# EAGLE library part ATARI_ACSI_PINHEAD (library Custom)
PIN HEADER
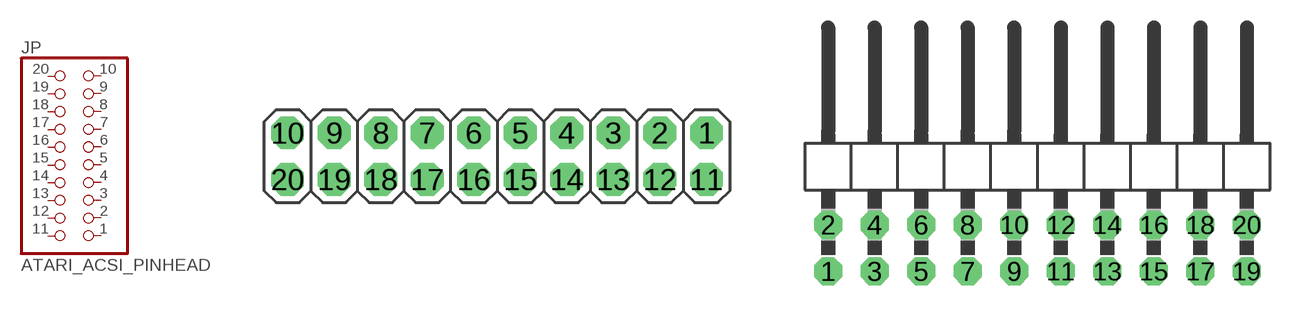
[diagram p44: symbol with the pads of 2X10; footprints 2X10, 2X10/90]

Designator prefix JP

## ATARI_ACSI_PINHEAD  [2X10]
1  D0  pas
2  D1  pas
3  D2  pas
4  D3  pas
5  D4  pas
6  D5  pas
7  D6  pas
8  D7  pas
9  CS  pas
10  INTREQ  pas
11  GND  pas
12  !RST  pas
13  GND  pas
14  ACK  pas
15  GND  pas
16  A1  pas
17  GND  pas
18  RW  pas
19  DATAREQ  pas
20  GND  pas

## ATARI_ACSI_PINHEAD/90  [2X10/90]
1  GND  pas
2  INTREQ  pas
3  DATAREQ  pas
4  CS  pas
5  RW  pas
6  D7  pas
7  GND  pas
8  D6  pas
9  A1  pas
10  D5  pas
11  GND  pas
12  D4  pas
13  ACK  pas
14  D3  pas
15  GND  pas
16  D2  pas
17  !RST  pas
18  D1  pas
19  GND  pas
20  D0  pas

## Footprint 2X10 (pad centres in mm)
PIN HEADER
drill 1.016 pad 1.778 octagon: 1 11.43,1.27; 2 8.89,1.27; 3 6.35,1.27; 4 3.81,1.27; 5 1.27,1.27; 6 -1.27,1.27; 7 -3.81,1.27; 8 -6.35,1.27; 9 -8.89,1.27; 10 -11.43,1.27; 11 11.43,-1.27; 12 8.89,-1.27; 13 6.35,-1.27; 14 3.81,-1.27; 15 1.27,-1.27; 16 -1.27,-1.27; 17 -3.81,-1.27; 18 -6.35,-1.27; 19 -8.89,-1.27; 20 -11.43,-1.27

## Footprint 2X10/90 (pad centres in mm)
PIN HEADER
drill 1.016 octagon: 1 -11.43,-6.35; 2 -11.43,-3.81; 3 -8.89,-6.35; 4 -8.89,-3.81; 5 -6.35,-6.35; 6 -6.35,-3.81; 7 -3.81,-6.35; 8 -3.81,-3.81; 9 -1.27,-6.35; 10 -1.27,-3.81; 11 1.27,-6.35; 12 1.27,-3.81; 13 3.81,-6.35; 14 3.81,-3.81; 15 6.35,-6.35; 16 6.35,-3.81; 17 8.89,-6.35; 18 8.89,-3.81; 19 11.43,-6.35; 20 11.43,-3.81